# Altium integrated library Analog Devices Data Converters Analog-to-Digital Converters.IntLib: 2404 symbols (part 60 of 346)
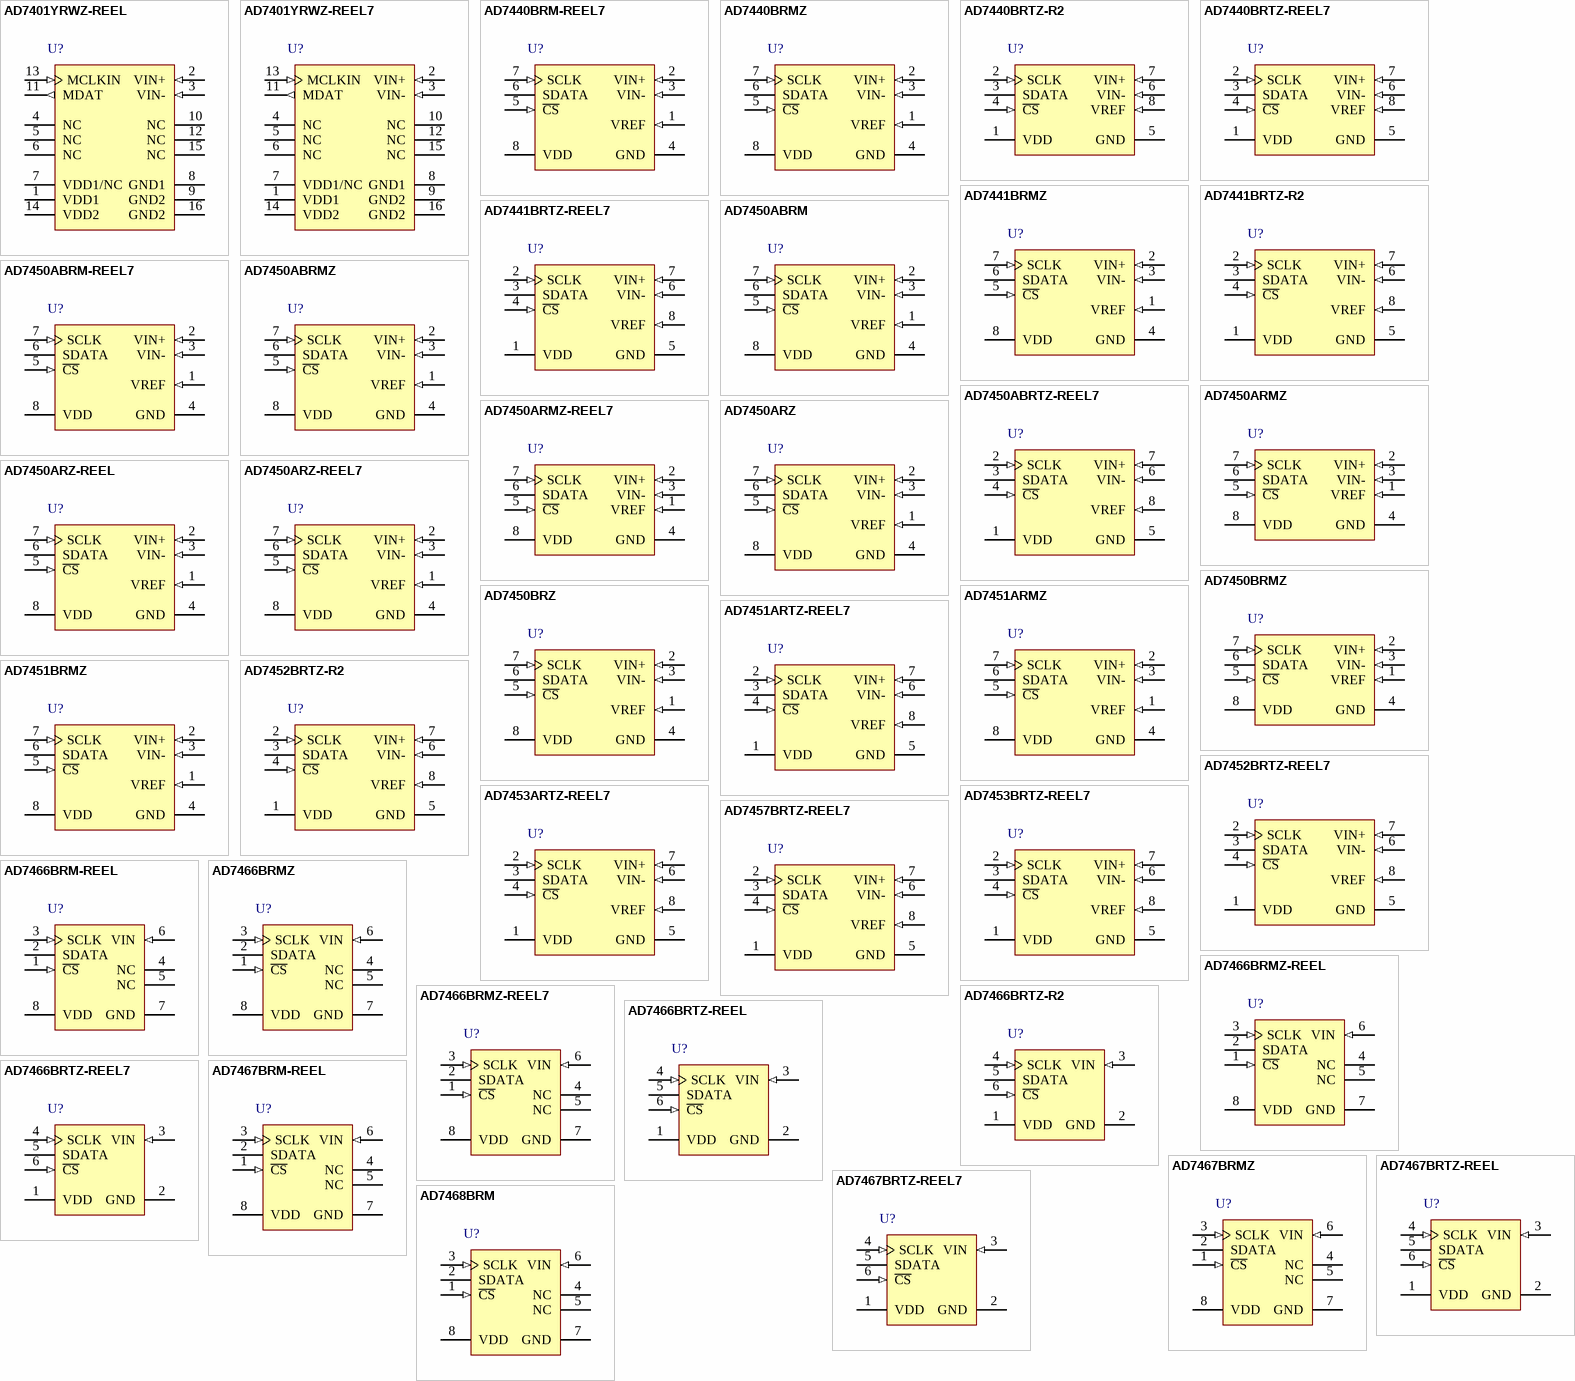
[diagram p188: symbols AD7401YRWZ-REEL to AD7468BRM]

## AD7441BRTZ-REEL7
designator U?
Single 10-Bit Analog-to-Digital Converter with Serial, SPI Interface, 1MSPS, -40 to +85 degC, RJ-8, Pb-Free, Reel; Generic Part Number: AD7441; Manufacturer: Analog Devices; PartNumber: AD7441BRTZ-REEL7; Resolution (Bits): 10; Channels: 1; Throughput Rate (SPS): 1M; Interface: Ser, SPI; DatasheetVersion: Rev.D; PackageVersion: 121608-A; PackageReference: RJ-8; PackageDescription: 8-Lead Thin Small Outline Transistor Package [SOT-23]; Supplier 1: Digi-Key; Supplier Part Number 1: AD7441BRTZ-REEL7TR-ND; Supplier 2: Digi-Key; Supplier Part Number 2: AD7441BRTZ-REEL7CT-ND; Supplier 3: Digi-Key; Supplier Part Number 3: AD7441BRTZ-REEL7DKR-ND; Supplier 4: Mouser; Supplier Part Number 4: 584-AD7441BRTZ-R7; RoHS: Y; Packing: Reel; Mounting Technology: Surface Mount; Code_JEDEC: MO-178-BA; ComponentLink1Description: Manufacturer URL; ComponentLink1URL: http://www.analog.com/en/index.html; ComponentLink2Description: Datasheet; ComponentLink2URL: http://www.analog.com/static/imported-files/data_sheets/AD7441_7451.pdf; ComponentLink3Description: Package Specification; ComponentLink3URL: http://www.analog.com/static/imported-files/packages/PKG_PDF/SOT-23(RJ)/RJ_8.pdf; ComponentLink4Description: Product URL; ComponentLink4URL: http://www.analog.com/en/analog-to-digital-converters/ad-converters/ad7441/products/product.html
footprint RJ-8_N (SOP, 8-Leads, Body 2.9x1.6mm, Pitch 0.65mm, IPC Medium Density)
footprint RJ-8_L (SOP, 8-Leads, Body 2.9x1.6mm, Pitch 0.65mm, IPC High Density)
footprint RJ-8_M (SOP, 8-Leads, Body 2.9x1.6mm, Pitch 0.65mm, IPC Low Density)
pins: 1 VDD (power) "Power Supply Input. VDD is 2.7 V to 5.25 V. This supply is decoupled to GND with a 0.1 uF capacitor and a 10 uF tantalum capacitor.", 2 SCLK (in) "Serial Clock, Logic Input. SCLK provides the serial clock for accessing data from the part. This clock input is also used as the clock source for the conversion process.", 3 SDATA (hiz) "Serial Data, Logic Output. The conversion result from the AD7441/AD7451 is provided on this output as a serial data stream. The bits are clocked out on the falling edge of the SCLK input. The data stream of the AD7451 (See Datasheet)", 4 ~{CS} (in) "Chip Select. Active low logic input. This input provides the dual function of initiating a conversion on the AD7441/AD7451 and framing the serial data transfer.", 5 GND (power) "Analog Ground. Ground reference point for all circuitry on the AD7441/AD7451. All analog input signals and any external reference signal are referred to this GND voltage.", 6 VIN- (in) "Inverting Input. This pin sets the ground reference point for the VIN+ input. Connect to ground or to a dc offset to provide a pseudo ground.", 7 VIN+ (in) "Noninverting Analog Input.", 8 VREF (in) "Reference Input for the AD7441/AD7451. An external reference in the range of 100 mV to VDD must be applied to this input. The specified reference input is 2.5 V. This pin is decoupled to GND with a capacitor of at least 0.1 (See Datasheet)"

## AD7450ABRM
designator U?
Single 12-Bit Analog-to-Digital Converter with Serial Interface, 1MSPS, -40 to +85 degC, RM-8, Tube; Generic Part Number: AD7450A; Manufacturer: Analog Devices; PartNumber: AD7450ABRM; Resolution (Bits): 12; Channels: 1; Throughput Rate (SPS): 1M; Interface: Ser; DatasheetVersion: Rev.C; PackageVersion: Aug-2005; PackageReference: RM-8; PackageDescription: 8-Lead Mini Small Outline Package [MSOP]; Supplier 1: Digi-Key; Supplier Part Number 1: AD7450ABRM-ND; Supplier 2: Mouser; Supplier Part Number 2: 584-AD7450ABRM; RoHS: N; Packing: Tube; Mounting Technology: Surface Mount; Code_JEDEC: MO-187-AA; ComponentLink1Description: Manufacturer URL; ComponentLink1URL: http://www.analog.com/en/index.html; ComponentLink2Description: Datasheet; ComponentLink2URL: http://www.analog.com/static/imported-files/data_sheets/AD7440_7450A.pdf; ComponentLink3Description: Package Specification; ComponentLink3URL: http://www.analog.com/static/imported-files/packages/PKG_PDF/MSOP%28RM%29/RM_8.pdf; ComponentLink4Description: Product URL; ComponentLink4URL: http://www.analog.com/en/analog-to-digital-converters/ad-converters/ad7450a/products/product.html
footprint RM-8_N (TSOP, 8-Leads, Body 3x3mm, Pitch 0.65mm, IPC Medium Density)
footprint RM-8_L (TSOP, 8-Leads, Body 3x3mm, Pitch 0.65mm, IPC High Density)
footprint RM-8_M (TSOP, 8-Leads, Body 3x3mm, Pitch 0.65mm, IPC Low Density)
pins: 1 VREF (in) "Reference Input for the AD7440/AD7450A. An external reference must be applied to this input. For a 5 V power supply, the reference is 2.5 V (+/-1%) for specified performance. For a 3 V power supply, the reference is 2 V (See Datasheet)", 2 VIN+ (in) "Positive Terminal for Differential Analog Input.", 3 VIN- (in) "Negative Terminal for Differential Analog Input.", 4 GND (power) "Analog Ground. Ground reference point for all circuitry on the AD7440/AD7450A. All analog input signals and any external reference signal should be referred to this GND voltage.", 5 ~{CS} (in) "Chip Select. Active low logic input. This input provides the dual function of initiating a conversion on the AD7440/AD7450A and framing the serial data transfer.", 6 SDATA (hiz) "Serial Data. Logic output. The conversion result from the AD7440/AD7450A is provided on this output as a serial data stream. The bits are clocked out on the falling edge of the SCLK input. The data stream of the AD7450A (See Datasheet)", 7 SCLK (in) "Serial Clock. Logic input. SCLK provides the serial clock for accessing data from the part. This clock input is also used as the clock source for the conversion process.", 8 VDD (power) "Power Supply Input. VDD is 3 V (+20%/-10%) or 5 V (+/-5%). This supply should be decoupled to GND with a 0.1 uF capacitor and a 10 uF tantalum capacitor in parallel."

## AD7450ABRM-REEL7
designator U?
Single 12-Bit Analog-to-Digital Converter with Serial Interface, 1MSPS, -40 to +85 degC, RM-8, Reel; Generic Part Number: AD7450A; Manufacturer: Analog Devices; PartNumber: AD7450ABRM-REEL7; Resolution (Bits): 12; Channels: 1; Throughput Rate (SPS): 1M; Interface: Ser; DatasheetVersion: Rev.C; PackageVersion: Aug-2005; PackageReference: RM-8; PackageDescription: 8-Lead Mini Small Outline Package [MSOP]; Supplier 1: Digi-Key; Supplier Part Number 1: AD7450ABRM-REEL7-ND; Supplier 2: Mouser; Supplier Part Number 2: 584-AD7450ABRM-R7; RoHS: N; Packing: Reel; Mounting Technology: Surface Mount; Code_JEDEC: MO-187-AA; ComponentLink1Description: Manufacturer URL; ComponentLink1URL: http://www.analog.com/en/index.html; ComponentLink2Description: Datasheet; ComponentLink2URL: http://www.analog.com/static/imported-files/data_sheets/AD7440_7450A.pdf; ComponentLink3Description: Package Specification; ComponentLink3URL: http://www.analog.com/static/imported-files/packages/PKG_PDF/MSOP%28RM%29/RM_8.pdf; ComponentLink4Description: Product URL; ComponentLink4URL: http://www.analog.com/en/analog-to-digital-converters/ad-converters/ad7450a/products/product.html
footprint RM-8_N (TSOP, 8-Leads, Body 3x3mm, Pitch 0.65mm, IPC Medium Density)
footprint RM-8_L (TSOP, 8-Leads, Body 3x3mm, Pitch 0.65mm, IPC High Density)
footprint RM-8_M (TSOP, 8-Leads, Body 3x3mm, Pitch 0.65mm, IPC Low Density)
pins: 1 VREF (in) "Reference Input for the AD7440/AD7450A. An external reference must be applied to this input. For a 5 V power supply, the reference is 2.5 V (+/-1%) for specified performance. For a 3 V power supply, the reference is 2 V (See Datasheet)", 2 VIN+ (in) "Positive Terminal for Differential Analog Input.", 3 VIN- (in) "Negative Terminal for Differential Analog Input.", 4 GND (power) "Analog Ground. Ground reference point for all circuitry on the AD7440/AD7450A. All analog input signals and any external reference signal should be referred to this GND voltage.", 5 ~{CS} (in) "Chip Select. Active low logic input. This input provides the dual function of initiating a conversion on the AD7440/AD7450A and framing the serial data transfer.", 6 SDATA (hiz) "Serial Data. Logic output. The conversion result from the AD7440/AD7450A is provided on this output as a serial data stream. The bits are clocked out on the falling edge of the SCLK input. The data stream of the AD7450A (See Datasheet)", 7 SCLK (in) "Serial Clock. Logic input. SCLK provides the serial clock for accessing data from the part. This clock input is also used as the clock source for the conversion process.", 8 VDD (power) "Power Supply Input. VDD is 3 V (+20%/-10%) or 5 V (+/-5%). This supply should be decoupled to GND with a 0.1 uF capacitor and a 10 uF tantalum capacitor in parallel."

## AD7450ABRMZ
designator U?
Single 12-Bit Analog-to-Digital Converter with Serial Interface, 1MSPS, -40 to +85 degC, RM-8, Pb-Free, Tube; Generic Part Number: AD7450A; Manufacturer: Analog Devices; PartNumber: AD7450ABRMZ; Resolution (Bits): 12; Channels: 1; Throughput Rate (SPS): 1M; Interface: Ser; DatasheetVersion: Rev.C; PackageVersion: Aug-2005; PackageReference: RM-8; PackageDescription: 8-Lead Mini Small Outline Package [MSOP]; Supplier 1: Digi-Key; Supplier Part Number 1: AD7450ABRMZ-ND; Supplier 2: Newark; Supplier Part Number 2: 59K4825; Supplier 3: Mouser; Supplier Part Number 3: 584-AD7450ABRMZ; RoHS: Y; Packing: Tube; Mounting Technology: Surface Mount; Code_JEDEC: MO-187-AA; ComponentLink1Description: Manufacturer URL; ComponentLink1URL: http://www.analog.com/en/index.html; ComponentLink2Description: Datasheet; ComponentLink2URL: http://www.analog.com/static/imported-files/data_sheets/AD7440_7450A.pdf; ComponentLink3Description: Package Specification; ComponentLink3URL: http://www.analog.com/static/imported-files/packages/PKG_PDF/MSOP%28RM%29/RM_8.pdf; ComponentLink4Description: Product URL; ComponentLink4URL: http://www.analog.com/en/analog-to-digital-converters/ad-converters/ad7450a/products/product.html
footprint RM-8_N (TSOP, 8-Leads, Body 3x3mm, Pitch 0.65mm, IPC Medium Density)
footprint RM-8_L (TSOP, 8-Leads, Body 3x3mm, Pitch 0.65mm, IPC High Density)
footprint RM-8_M (TSOP, 8-Leads, Body 3x3mm, Pitch 0.65mm, IPC Low Density)
pins: 1 VREF (in) "Reference Input for the AD7440/AD7450A. An external reference must be applied to this input. For a 5 V power supply, the reference is 2.5 V (+/-1%) for specified performance. For a 3 V power supply, the reference is 2 V (See Datasheet)", 2 VIN+ (in) "Positive Terminal for Differential Analog Input.", 3 VIN- (in) "Negative Terminal for Differential Analog Input.", 4 GND (power) "Analog Ground. Ground reference point for all circuitry on the AD7440/AD7450A. All analog input signals and any external reference signal should be referred to this GND voltage.", 5 ~{CS} (in) "Chip Select. Active low logic input. This input provides the dual function of initiating a conversion on the AD7440/AD7450A and framing the serial data transfer.", 6 SDATA (hiz) "Serial Data. Logic output. The conversion result from the AD7440/AD7450A is provided on this output as a serial data stream. The bits are clocked out on the falling edge of the SCLK input. The data stream of the AD7450A (See Datasheet)", 7 SCLK (in) "Serial Clock. Logic input. SCLK provides the serial clock for accessing data from the part. This clock input is also used as the clock source for the conversion process.", 8 VDD (power) "Power Supply Input. VDD is 3 V (+20%/-10%) or 5 V (+/-5%). This supply should be decoupled to GND with a 0.1 uF capacitor and a 10 uF tantalum capacitor in parallel."

## AD7450ABRTZ-REEL7
designator U?
Single 12-Bit Analog-to-Digital Converter with Serial Interface, 1MSPS, -40 to +85 degC, RJ-8, Pb-Free, Reel; Generic Part Number: AD7450A; Manufacturer: Analog Devices; PartNumber: AD7450ABRTZ-REEL7; Resolution (Bits): 12; Channels: 1; Throughput Rate (SPS): 1M; Interface: Ser; DatasheetVersion: Rev.C; PackageVersion: 121608-A; PackageReference: RJ-8; PackageDescription: 8-Lead Thin Small Outline Transistor Package [SOT-23]; Supplier 1: Digi-Key; Supplier Part Number 1: AD7450ABRTZ-REEL7TR-ND; Supplier 2: Digi-Key; Supplier Part Number 2: AD7450ABRTZ-REEL7CT-ND; Supplier 3: Digi-Key; Supplier Part Number 3: AD7450ABRTZ-REEL7DKR-ND; Supplier 4: Newark; Supplier Part Number 4: 59K4826; Supplier 5: Mouser; Supplier Part Number 5: 584-AD7450ABRTZ-R7; RoHS: Y; Packing: Reel; Mounting Technology: Surface Mount; Code_JEDEC: MO-178-BA; ComponentLink1Description: Manufacturer URL; ComponentLink1URL: http://www.analog.com/en/index.html; ComponentLink2Description: Datasheet; ComponentLink2URL: http://www.analog.com/static/imported-files/data_sheets/AD7440_7450A.pdf; ComponentLink3Description: Package Specification; ComponentLink3URL: http://www.analog.com/static/imported-files/packages/PKG_PDF/SOT-23(RJ)/RJ_8.pdf; ComponentLink4Description: Product URL; ComponentLink4URL: http://www.analog.com/en/analog-to-digital-converters/ad-converters/ad7450a/products/product.html
footprint RJ-8_N (SOP, 8-Leads, Body 2.9x1.6mm, Pitch 0.65mm, IPC Medium Density)
footprint RJ-8_L (SOP, 8-Leads, Body 2.9x1.6mm, Pitch 0.65mm, IPC High Density)
footprint RJ-8_M (SOP, 8-Leads, Body 2.9x1.6mm, Pitch 0.65mm, IPC Low Density)
pins: 1 VDD (power) "Power Supply Input. VDD is 3 V (+20%/-10%) or 5 V (+/-5%). This supply should be decoupled to GND with a 0.1 uF capacitor and a 10 uF tantalum capacitor in parallel.", 2 SCLK (in) "Serial Clock. Logic input. SCLK provides the serial clock for accessing data from the part. This clock input is also used as the clock source for the conversion process.", 3 SDATA (hiz) "Serial Data. Logic output. The conversion result from the AD7440/AD7450A is provided on this output as a serial data stream. The bits are clocked out on the falling edge of the SCLK input. The data stream of the AD7450A (See Datasheet)", 4 ~{CS} (in) "Chip Select. Active low logic input. This input provides the dual function of initiating a conversion on the AD7440/AD7450A and framing the serial data transfer.", 5 GND (power) "Analog Ground. Ground reference point for all circuitry on the AD7440/AD7450A. All analog input signals and any external reference signal should be referred to this GND voltage.", 6 VIN- (in) "Negative Terminal for Differential Analog Input.", 7 VIN+ (in) "Positive Terminal for Differential Analog Input.", 8 VREF (in) "Reference Input for the AD7440/AD7450A. An external reference must be applied to this input. For a 5 V power supply, the reference is 2.5 V (+/-1%) for specified performance. For a 3 V power supply, the reference is 2 V (See Datasheet)"

## AD7450ARMZ
designator U?
Single 12-Bit Analog-to-Digital Converter with Serial Interface, 1MSPS, -40 to +85 degC, RM-8, Pb-Free, Tube; Generic Part Number: AD7450; Manufacturer: Analog Devices; PartNumber: AD7450ARMZ; Resolution (Bits): 12; Channels: 1; Throughput Rate (SPS): 1M; Interface: Ser; DatasheetVersion: Rev.A; PackageVersion: Aug-2005; PackageReference: RM-8; PackageDescription: 8-Lead Mini Small Outline Package [MSOP]; Supplier 1: Digi-Key; Supplier Part Number 1: AD7450ARMZ-ND; Supplier 2: Farnell; Supplier Part Number 2: 1079395; Supplier 3: Newark; Supplier Part Number 3: 15P0805; Supplier 4: Newark; Supplier Part Number 4: 59K4827; Supplier 5: Mouser; Supplier Part Number 5: 584-AD7450ARMZ; RoHS: Y; Packing: Tube; Mounting Technology: Surface Mount; Code_JEDEC: MO-187-AA; ComponentLink1Description: Manufacturer URL; ComponentLink1URL: http://www.analog.com/en/index.html; ComponentLink2Description: Datasheet; ComponentLink2URL: http://www.analog.com/static/imported-files/data_sheets/AD7450.pdf; ComponentLink3Description: Package Specification; ComponentLink3URL: http://www.analog.com/static/imported-files/packages/PKG_PDF/MSOP%28RM%29/RM_8.pdf; ComponentLink4Description: Product URL; ComponentLink4URL: http://www.analog.com/en/analog-to-digital-converters/ad-converters/ad7450/products/product.html
footprint RM-8_N (TSOP, 8-Leads, Body 3x3mm, Pitch 0.65mm, IPC Medium Density)
footprint RM-8_L (TSOP, 8-Leads, Body 3x3mm, Pitch 0.65mm, IPC High Density)
footprint RM-8_M (TSOP, 8-Leads, Body 3x3mm, Pitch 0.65mm, IPC Low Density)
pins: 1 VREF (in) "Reference Input for the AD7450. An external reference must be applied to this input. For a 5 V power supply, the reference is 2.5 V (+/-1%), and for a 3 V power supply, the reference is 1.25 V (+/-1%) for specified (See Datasheet)", 2 VIN+ (in) "Positive Terminal for Differential Analog Input", 3 VIN- (in) "Negative Terminal for Differential Analog Input", 4 GND (power) "Analog Ground. Ground reference point for all circuitry on the AD7450. All analog input signals and any external reference signal should be referred to this GND voltage.", 5 ~{CS} (in) "Chip Select. Active low logic input. This input provides the dual function of initiating a conversion on the AD7450 and framing the serial data transfer.", 6 SDATA (hiz) "Serial Data. Logic output. The conversion result from the AD7450 is provided on this output as a serial data stream. The bits are clocked out on the falling edge of the SCLK input. The data stream consists of four leading (See Datasheet)", 7 SCLK (in) "Serial Clock. Logic input. SCLK provides the serial clock for accessing data from the part.This clock input is also used as the clock source for the AD7450’s conversion process.", 8 VDD (power) "Power Supply Input. VDD is 3 V (+/-10%) or 5 V (+/-5%). This supply should be decoupled to GND with a 0.1 uF capacitor and a 10 uF tantalum capacitor."

## AD7450ARMZ-REEL7
designator U?
Single 12-Bit Analog-to-Digital Converter with Serial Interface, 1MSPS, -40 to +85 degC, RM-8, Pb-Free, Reel; Generic Part Number: AD7450; Manufacturer: Analog Devices; PartNumber: AD7450ARMZ-REEL7; Resolution (Bits): 12; Channels: 1; Throughput Rate (SPS): 1M; Interface: Ser; DatasheetVersion: Rev.A; PackageVersion: Aug-2005; PackageReference: RM-8; PackageDescription: 8-Lead Mini Small Outline Package [MSOP]; Supplier 1: Digi-Key; Supplier Part Number 1: AD7450ARMZ-REEL7-ND; Supplier 2: Mouser; Supplier Part Number 2: 584-AD7450ARMZ-R7; RoHS: Y; Packing: Reel; Mounting Technology: Surface Mount; Code_JEDEC: MO-187-AA; ComponentLink1Description: Manufacturer URL; ComponentLink1URL: http://www.analog.com/en/index.html; ComponentLink2Description: Datasheet; ComponentLink2URL: http://www.analog.com/static/imported-files/data_sheets/AD7450.pdf; ComponentLink3Description: Package Specification; ComponentLink3URL: http://www.analog.com/static/imported-files/packages/PKG_PDF/MSOP%28RM%29/RM_8.pdf; ComponentLink4Description: Product URL; ComponentLink4URL: http://www.analog.com/en/analog-to-digital-converters/ad-converters/ad7450/products/product.html
footprint RM-8_N (TSOP, 8-Leads, Body 3x3mm, Pitch 0.65mm, IPC Medium Density)
footprint RM-8_L (TSOP, 8-Leads, Body 3x3mm, Pitch 0.65mm, IPC High Density)
footprint RM-8_M (TSOP, 8-Leads, Body 3x3mm, Pitch 0.65mm, IPC Low Density)
pins: 1 VREF (in) "Reference Input for the AD7450. An external reference must be applied to this input. For a 5 V power supply, the reference is 2.5 V (+/-1%), and for a 3 V power supply, the reference is 1.25 V (+/-1%) for specified (See Datasheet)", 2 VIN+ (in) "Positive Terminal for Differential Analog Input", 3 VIN- (in) "Negative Terminal for Differential Analog Input", 4 GND (power) "Analog Ground. Ground reference point for all circuitry on the AD7450. All analog input signals and any external reference signal should be referred to this GND voltage.", 5 ~{CS} (in) "Chip Select. Active low logic input. This input provides the dual function of initiating a conversion on the AD7450 and framing the serial data transfer.", 6 SDATA (hiz) "Serial Data. Logic output. The conversion result from the AD7450 is provided on this output as a serial data stream. The bits are clocked out on the falling edge of the SCLK input. The data stream consists of four leading (See Datasheet)", 7 SCLK (in) "Serial Clock. Logic input. SCLK provides the serial clock for accessing data from the part.This clock input is also used as the clock source for the AD7450’s conversion process.", 8 VDD (power) "Power Supply Input. VDD is 3 V (+/-10%) or 5 V (+/-5%). This supply should be decoupled to GND with a 0.1 uF capacitor and a 10 uF tantalum capacitor."

## AD7450ARZ
designator U?
Single 12-Bit Analog-to-Digital Converter with Serial Interface, 1MSPS, -40 to +85 degC, R-8, Pb-Free, Tube; Generic Part Number: AD7450; Manufacturer: Analog Devices; PartNumber: AD7450ARZ; Resolution (Bits): 12; Channels: 1; Throughput Rate (SPS): 1M; Interface: Ser; DatasheetVersion: Rev.A; PackageVersion: 060506-A; PackageReference: R-8; PackageDescription: 8-Lead Standard Small Outline Package [SOIC_N] Narrow Body; Supplier 1: Digi-Key; Supplier Part Number 1: AD7450ARZ-ND; Supplier 2: Mouser; Supplier Part Number 2: 584-AD7450ARZ; RoHS: Y; Packing: Tube; Mounting Technology: Surface Mount; Code_JEDEC: MS-012-AA; Code_IPC: SOIC127P600-8; ComponentLink1Description: Manufacturer URL; ComponentLink1URL: http://www.analog.com/en/index.html; ComponentLink2Description: Datasheet; ComponentLink2URL: http://www.analog.com/static/imported-files/data_sheets/AD7450.pdf; ComponentLink3Description: Package Specification; ComponentLink3URL: http://www.analog.com/static/imported-files/packages/PKG_PDF/SOIC_Narrow%20(R)/R_8.pdf; ComponentLink4Description: Product URL; ComponentLink4URL: http://www.analog.com/en/analog-to-digital-converters/ad-converters/ad7450/products/product.html
footprint R-8_N (SOIC, 8-Leads, Body 4.9x3.9mm, Pitch 1.27mm, IPC Medium Density)
footprint R-8_L (SOIC, 8-Leads, Body 4.9x3.9mm, Pitch 1.27mm, IPC High Density)
footprint R-8_M (SOIC, 8-Leads, Body 4.9x3.9mm, Pitch 1.27mm, IPC Low Density)
pins: 1 VREF (in) "Reference Input for the AD7450. An external reference must be applied to this input. For a 5 V power supply, the reference is 2.5 V (+/-1%), and for a 3 V power supply, the reference is 1.25 V (+/-1%) for specified (See Datasheet)", 2 VIN+ (in) "Positive Terminal for Differential Analog Input", 3 VIN- (in) "Negative Terminal for Differential Analog Input", 4 GND (power) "Analog Ground. Ground reference point for all circuitry on the AD7450. All analog input signals and any external reference signal should be referred to this GND voltage.", 5 ~{CS} (in) "Chip Select. Active low logic input. This input provides the dual function of initiating a conversion on the AD7450 and framing the serial data transfer.", 6 SDATA (hiz) "Serial Data. Logic output. The conversion result from the AD7450 is provided on this output as a serial data stream. The bits are clocked out on the falling edge of the SCLK input. The data stream consists of four leading (See Datasheet)", 7 SCLK (in) "Serial Clock. Logic input. SCLK provides the serial clock for accessing data from the part.This clock input is also used as the clock source for the AD7450's conversion process.", 8 VDD (power) "Power Supply Input. VDD is 3 V (+/-10%) or 5 V (+/-5%). This supply should be decoupled to GND with a 0.1 uF capacitor and a 10 uF tantalum capacitor."

## AD7450ARZ-REEL
designator U?
Single 12-Bit Analog-to-Digital Converter with Serial Interface, 1MSPS, -40 to +85 degC, R-8, Pb-Free, Reel; Generic Part Number: AD7450; Manufacturer: Analog Devices; PartNumber: AD7450ARZ-REEL; Resolution (Bits): 12; Channels: 1; Throughput Rate (SPS): 1M; Interface: Ser; DatasheetVersion: Rev.A; PackageVersion: 060506-A; PackageReference: R-8; PackageDescription: 8-Lead Standard Small Outline Package [SOIC_N] Narrow Body; Supplier 1: Digi-Key; Supplier Part Number 1: AD7450ARZ-REEL-ND; Supplier 2: Mouser; Supplier Part Number 2: 584-AD7450ARZ-R; RoHS: Y; Packing: Reel; Mounting Technology: Surface Mount; Code_JEDEC: MS-012-AA; Code_IPC: SOIC127P600-8; ComponentLink1Description: Manufacturer URL; ComponentLink1URL: http://www.analog.com/en/index.html; ComponentLink2Description: Datasheet; ComponentLink2URL: http://www.analog.com/static/imported-files/data_sheets/AD7450.pdf; ComponentLink3Description: Package Specification; ComponentLink3URL: http://www.analog.com/static/imported-files/packages/PKG_PDF/SOIC_Narrow%20(R)/R_8.pdf; ComponentLink4Description: Product URL; ComponentLink4URL: http://www.analog.com/en/analog-to-digital-converters/ad-converters/ad7450/products/product.html
footprint R-8_N (SOIC, 8-Leads, Body 4.9x3.9mm, Pitch 1.27mm, IPC Medium Density)
footprint R-8_L (SOIC, 8-Leads, Body 4.9x3.9mm, Pitch 1.27mm, IPC High Density)
footprint R-8_M (SOIC, 8-Leads, Body 4.9x3.9mm, Pitch 1.27mm, IPC Low Density)
pins: 1 VREF (in) "Reference Input for the AD7450. An external reference must be applied to this input. For a 5 V power supply, the reference is 2.5 V (+/-1%), and for a 3 V power supply, the reference is 1.25 V (+/-1%) for specified (See Datasheet)", 2 VIN+ (in) "Positive Terminal for Differential Analog Input", 3 VIN- (in) "Negative Terminal for Differential Analog Input", 4 GND (power) "Analog Ground. Ground reference point for all circuitry on the AD7450. All analog input signals and any external reference signal should be referred to this GND voltage.", 5 ~{CS} (in) "Chip Select. Active low logic input. This input provides the dual function of initiating a conversion on the AD7450 and framing the serial data transfer.", 6 SDATA (hiz) "Serial Data. Logic output. The conversion result from the AD7450 is provided on this output as a serial data stream. The bits are clocked out on the falling edge of the SCLK input. The data stream consists of four leading (See Datasheet)", 7 SCLK (in) "Serial Clock. Logic input. SCLK provides the serial clock for accessing data from the part.This clock input is also used as the clock source for the AD7450's conversion process.", 8 VDD (power) "Power Supply Input. VDD is 3 V (+/-10%) or 5 V (+/-5%). This supply should be decoupled to GND with a 0.1 uF capacitor and a 10 uF tantalum capacitor."

## AD7450ARZ-REEL7
designator U?
Single 12-Bit Analog-to-Digital Converter with Serial Interface, 1MSPS, -40 to +85 degC, R-8, Pb-Free, Reel; Generic Part Number: AD7450; Manufacturer: Analog Devices; PartNumber: AD7450ARZ-REEL7; Resolution (Bits): 12; Channels: 1; Throughput Rate (SPS): 1M; Interface: Ser; DatasheetVersion: Rev.A; PackageVersion: 060506-A; PackageReference: R-8; PackageDescription: 8-Lead Standard Small Outline Package [SOIC_N] Narrow Body; Supplier 1: Digi-Key; Supplier Part Number 1: AD7450ARZ-REEL7-ND; Supplier 2: Mouser; Supplier Part Number 2: 584-AD7450ARZ-R7; RoHS: Y; Packing: Reel; Mounting Technology: Surface Mount; Code_JEDEC: MS-012-AA; Code_IPC: SOIC127P600-8; ComponentLink1Description: Manufacturer URL; ComponentLink1URL: http://www.analog.com/en/index.html; ComponentLink2Description: Datasheet; ComponentLink2URL: http://www.analog.com/static/imported-files/data_sheets/AD7450.pdf; ComponentLink3Description: Package Specification; ComponentLink3URL: http://www.analog.com/static/imported-files/packages/PKG_PDF/SOIC_Narrow%20(R)/R_8.pdf; ComponentLink4Description: Product URL; ComponentLink4URL: http://www.analog.com/en/analog-to-digital-converters/ad-converters/ad7450/products/product.html
footprint R-8_N (SOIC, 8-Leads, Body 4.9x3.9mm, Pitch 1.27mm, IPC Medium Density)
footprint R-8_L (SOIC, 8-Leads, Body 4.9x3.9mm, Pitch 1.27mm, IPC High Density)
footprint R-8_M (SOIC, 8-Leads, Body 4.9x3.9mm, Pitch 1.27mm, IPC Low Density)
pins: 1 VREF (in) "Reference Input for the AD7450. An external reference must be applied to this input. For a 5 V power supply, the reference is 2.5 V (+/-1%), and for a 3 V power supply, the reference is 1.25 V (+/-1%) for specified (See Datasheet)", 2 VIN+ (in) "Positive Terminal for Differential Analog Input", 3 VIN- (in) "Negative Terminal for Differential Analog Input", 4 GND (power) "Analog Ground. Ground reference point for all circuitry on the AD7450. All analog input signals and any external reference signal should be referred to this GND voltage.", 5 ~{CS} (in) "Chip Select. Active low logic input. This input provides the dual function of initiating a conversion on the AD7450 and framing the serial data transfer.", 6 SDATA (hiz) "Serial Data. Logic output. The conversion result from the AD7450 is provided on this output as a serial data stream. The bits are clocked out on the falling edge of the SCLK input. The data stream consists of four leading (See Datasheet)", 7 SCLK (in) "Serial Clock. Logic input. SCLK provides the serial clock for accessing data from the part.This clock input is also used as the clock source for the AD7450's conversion process.", 8 VDD (power) "Power Supply Input. VDD is 3 V (+/-10%) or 5 V (+/-5%). This supply should be decoupled to GND with a 0.1 uF capacitor and a 10 uF tantalum capacitor."

## AD7450BRMZ
designator U?
Single 12-Bit Analog-to-Digital Converter with Serial Interface, 1MSPS, -40 to +85 degC, RM-8, Pb-Free, Tube; Generic Part Number: AD7450; Manufacturer: Analog Devices; PartNumber: AD7450BRMZ; Resolution (Bits): 12; Channels: 1; Throughput Rate (SPS): 1M; Interface: Ser; DatasheetVersion: Rev.A; PackageVersion: Aug-2005; PackageReference: RM-8; PackageDescription: 8-Lead Mini Small Outline Package [MSOP]; Supplier 1: Digi-Key; Supplier Part Number 1: AD7450BRMZ-ND; Supplier 2: Mouser; Supplier Part Number 2: 584-AD7450BRMZ; RoHS: Y; Packing: Tube; Mounting Technology: Surface Mount; Code_JEDEC: MO-187-AA; ComponentLink1Description: Manufacturer URL; ComponentLink1URL: http://www.analog.com/en/index.html; ComponentLink2Description: Datasheet; ComponentLink2URL: http://www.analog.com/static/imported-files/data_sheets/AD7450.pdf; ComponentLink3Description: Package Specification; ComponentLink3URL: http://www.analog.com/static/imported-files/packages/PKG_PDF/MSOP%28RM%29/RM_8.pdf; ComponentLink4Description: Product URL; ComponentLink4URL: http://www.analog.com/en/analog-to-digital-converters/ad-converters/ad7450/products/product.html
footprint RM-8_N (TSOP, 8-Leads, Body 3x3mm, Pitch 0.65mm, IPC Medium Density)
footprint RM-8_L (TSOP, 8-Leads, Body 3x3mm, Pitch 0.65mm, IPC High Density)
footprint RM-8_M (TSOP, 8-Leads, Body 3x3mm, Pitch 0.65mm, IPC Low Density)
pins: 1 VREF (in) "Reference Input for the AD7450. An external reference must be applied to this input. For a 5 V power supply, the reference is 2.5 V (+/-1%), and for a 3 V power supply, the reference is 1.25 V (+/-1%) for specified (See Datasheet)", 2 VIN+ (in) "Positive Terminal for Differential Analog Input", 3 VIN- (in) "Negative Terminal for Differential Analog Input", 4 GND (power) "Analog Ground. Ground reference point for all circuitry on the AD7450. All analog input signals and any external reference signal should be referred to this GND voltage.", 5 ~{CS} (in) "Chip Select. Active low logic input. This input provides the dual function of initiating a conversion on the AD7450 and framing the serial data transfer.", 6 SDATA (hiz) "Serial Data. Logic output. The conversion result from the AD7450 is provided on this output as a serial data stream. The bits are clocked out on the falling edge of the SCLK input. The data stream consists of four leading (See Datasheet)", 7 SCLK (in) "Serial Clock. Logic input. SCLK provides the serial clock for accessing data from the part.This clock input is also used as the clock source for the AD7450’s conversion process.", 8 VDD (power) "Power Supply Input. VDD is 3 V (+/-10%) or 5 V (+/-5%). This supply should be decoupled to GND with a 0.1 uF capacitor and a 10 uF tantalum capacitor."

## AD7450BRZ
designator U?
Single 12-Bit Analog-to-Digital Converter with Serial Interface, 1MSPS, -40 to +85 degC, R-8, Pb-Free, Tube; Generic Part Number: AD7450; Manufacturer: Analog Devices; PartNumber: AD7450BRZ; Resolution (Bits): 12; Channels: 1; Throughput Rate (SPS): 1M; Interface: Ser; DatasheetVersion: Rev.A; PackageVersion: 060506-A; PackageReference: R-8; PackageDescription: 8-Lead Standard Small Outline Package [SOIC_N] Narrow Body; Supplier 1: Digi-Key; Supplier Part Number 1: AD7450BRZ-ND; Supplier 2: Mouser; Supplier Part Number 2: 584-AD7450BRZ; RoHS: Y; Packing: Tube; Mounting Technology: Surface Mount; Code_JEDEC: MS-012-AA; Code_IPC: SOIC127P600-8; ComponentLink1Description: Manufacturer URL; ComponentLink1URL: http://www.analog.com/en/index.html; ComponentLink2Description: Datasheet; ComponentLink2URL: http://www.analog.com/static/imported-files/data_sheets/AD7450.pdf; ComponentLink3Description: Package Specification; ComponentLink3URL: http://www.analog.com/static/imported-files/packages/PKG_PDF/SOIC_Narrow%20(R)/R_8.pdf; ComponentLink4Description: Product URL; ComponentLink4URL: http://www.analog.com/en/analog-to-digital-converters/ad-converters/ad7450/products/product.html
footprint R-8_N (SOIC, 8-Leads, Body 4.9x3.9mm, Pitch 1.27mm, IPC Medium Density)
footprint R-8_L (SOIC, 8-Leads, Body 4.9x3.9mm, Pitch 1.27mm, IPC High Density)
footprint R-8_M (SOIC, 8-Leads, Body 4.9x3.9mm, Pitch 1.27mm, IPC Low Density)
pins: 1 VREF (in) "Reference Input for the AD7450. An external reference must be applied to this input. For a 5 V power supply, the reference is 2.5 V (+/-1%), and for a 3 V power supply, the reference is 1.25 V (+/-1%) for specified (See Datasheet)", 2 VIN+ (in) "Positive Terminal for Differential Analog Input", 3 VIN- (in) "Negative Terminal for Differential Analog Input", 4 GND (power) "Analog Ground. Ground reference point for all circuitry on the AD7450. All analog input signals and any external reference signal should be referred to this GND voltage.", 5 ~{CS} (in) "Chip Select. Active low logic input. This input provides the dual function of initiating a conversion on the AD7450 and framing the serial data transfer.", 6 SDATA (hiz) "Serial Data. Logic output. The conversion result from the AD7450 is provided on this output as a serial data stream. The bits are clocked out on the falling edge of the SCLK input. The data stream consists of four leading (See Datasheet)", 7 SCLK (in) "Serial Clock. Logic input. SCLK provides the serial clock for accessing data from the part.This clock input is also used as the clock source for the AD7450's conversion process.", 8 VDD (power) "Power Supply Input. VDD is 3 V (+/-10%) or 5 V (+/-5%). This supply should be decoupled to GND with a 0.1 uF capacitor and a 10 uF tantalum capacitor."

## AD7451ARMZ
designator U?
Single 12-Bit Analog-to-Digital Converter with Serial, SPI Interface, 1MSPS, -40 to +85 degC, RM-8, Pb-Free, Tube; Generic Part Number: AD7451; Manufacturer: Analog Devices; PartNumber: AD7451ARMZ; Resolution (Bits): 12; Channels: 1; Throughput Rate (SPS): 1M; Interface: Ser, SPI; DatasheetVersion: Rev.D; PackageVersion: Aug-2005; PackageReference: RM-8; PackageDescription: 8-Lead Mini Small Outline Package [MSOP]; Supplier 1: Digi-Key; Supplier Part Number 1: AD7451ARMZ-ND; Supplier 2: Mouser; Supplier Part Number 2: 584-AD7451ARMZ; RoHS: Y; Packing: Tube; Mounting Technology: Surface Mount; Code_JEDEC: MO-187-AA; ComponentLink1Description: Manufacturer URL; ComponentLink1URL: http://www.analog.com/en/index.html; ComponentLink2Description: Datasheet; ComponentLink2URL: http://www.analog.com/static/imported-files/data_sheets/AD7441_7451.pdf; ComponentLink3Description: Package Specification; ComponentLink3URL: http://www.analog.com/static/imported-files/packages/PKG_PDF/MSOP%28RM%29/RM_8.pdf; ComponentLink4Description: Product URL; ComponentLink4URL: http://www.analog.com/en/analog-to-digital-converters/ad-converters/ad7451/products/product.html
footprint RM-8_N (TSOP, 8-Leads, Body 3x3mm, Pitch 0.65mm, IPC Medium Density)
footprint RM-8_L (TSOP, 8-Leads, Body 3x3mm, Pitch 0.65mm, IPC High Density)
footprint RM-8_M (TSOP, 8-Leads, Body 3x3mm, Pitch 0.65mm, IPC Low Density)
pins: 1 VREF (in) "Reference Input for the AD7441/AD7451. An external reference in the range of 100 mV to VDD must be applied to this input. The specified reference input is 2.5 V. This pin is decoupled to GND with a capacitor of at least 0.1 (See Datasheet)", 2 VIN+ (in) "Noninverting Analog Input.", 3 VIN- (in) "Inverting Input. This pin sets the ground reference point for the VIN+ input. Connect to ground or to a dc offset to provide a pseudo ground.", 4 GND (power) "Analog Ground. Ground reference point for all circuitry on the AD7441/AD7451. All analog input signals and any external reference signal are referred to this GND voltage.", 5 ~{CS} (in) "Chip Select. Active low logic input. This input provides the dual function of initiating a conversion on the AD7441/AD7451 and framing the serial data transfer.", 6 SDATA (hiz) "Serial Data, Logic Output. The conversion result from the AD7441/AD7451 is provided on this output as a serial data stream. The bits are clocked out on the falling edge of the SCLK input. The data stream of the AD7451 (See Datasheet)", 7 SCLK (in) "Serial Clock, Logic Input. SCLK provides the serial clock for accessing data from the part. This clock input is also used as the clock source for the conversion process.", 8 VDD (power) "Power Supply Input. VDD is 2.7 V to 5.25 V. This supply is decoupled to GND with a 0.1 uF capacitor and a 10 uF tantalum capacitor."

## AD7451ARTZ-REEL7
designator U?
Single 12-Bit Analog-to-Digital Converter with Serial, SPI Interface, 1MSPS, -40 to +85 degC, RJ-8, Pb-Free, Reel; Generic Part Number: AD7451; Manufacturer: Analog Devices; PartNumber: AD7451ARTZ-REEL7; Resolution (Bits): 12; Channels: 1; Throughput Rate (SPS): 1M; Interface: Ser, SPI; DatasheetVersion: Rev.D; PackageVersion: 121608-A; PackageReference: RJ-8; PackageDescription: 8-Lead Thin Small Outline Transistor Package [SOT-23]; Supplier 1: Digi-Key; Supplier Part Number 1: AD7451ARTZ-REEL7TR-ND; Supplier 2: Digi-Key; Supplier Part Number 2: AD7451ARTZ-REEL7CT-ND; Supplier 3: Digi-Key; Supplier Part Number 3: AD7451ARTZ-REEL7DKR-ND; Supplier 4: Mouser; Supplier Part Number 4: 584-AD7451ARTZ-R7; RoHS: Y; Packing: Reel; Mounting Technology: Surface Mount; Code_JEDEC: MO-178-BA; ComponentLink1Description: Manufacturer URL; ComponentLink1URL: http://www.analog.com/en/index.html; ComponentLink2Description: Datasheet; ComponentLink2URL: http://www.analog.com/static/imported-files/data_sheets/AD7441_7451.pdf; ComponentLink3Description: Package Specification; ComponentLink3URL: http://www.analog.com/static/imported-files/packages/PKG_PDF/SOT-23(RJ)/RJ_8.pdf; ComponentLink4Description: Product URL; ComponentLink4URL: http://www.analog.com/en/analog-to-digital-converters/ad-converters/ad7451/products/product.html
footprint RJ-8_N (SOP, 8-Leads, Body 2.9x1.6mm, Pitch 0.65mm, IPC Medium Density)
footprint RJ-8_L (SOP, 8-Leads, Body 2.9x1.6mm, Pitch 0.65mm, IPC High Density)
footprint RJ-8_M (SOP, 8-Leads, Body 2.9x1.6mm, Pitch 0.65mm, IPC Low Density)
pins: 1 VDD (power) "Power Supply Input. VDD is 2.7 V to 5.25 V. This supply is decoupled to GND with a 0.1 uF capacitor and a 10 uF tantalum capacitor.", 2 SCLK (in) "Serial Clock, Logic Input. SCLK provides the serial clock for accessing data from the part. This clock input is also used as the clock source for the conversion process.", 3 SDATA (hiz) "Serial Data, Logic Output. The conversion result from the AD7441/AD7451 is provided on this output as a serial data stream. The bits are clocked out on the falling edge of the SCLK input. The data stream of the AD7451 (See Datasheet)", 4 ~{CS} (in) "Chip Select. Active low logic input. This input provides the dual function of initiating a conversion on the AD7441/AD7451 and framing the serial data transfer.", 5 GND (power) "Analog Ground. Ground reference point for all circuitry on the AD7441/AD7451. All analog input signals and any external reference signal are referred to this GND voltage.", 6 VIN- (in) "Inverting Input. This pin sets the ground reference point for the VIN+ input. Connect to ground or to a dc offset to provide a pseudo ground.", 7 VIN+ (in) "Noninverting Analog Input.", 8 VREF (in) "Reference Input for the AD7441/AD7451. An external reference in the range of 100 mV to VDD must be applied to this input. The specified reference input is 2.5 V. This pin is decoupled to GND with a capacitor of at least 0.1 (See Datasheet)"

## AD7451BRMZ
designator U?
Single 12-Bit Analog-to-Digital Converter with Serial, SPI Interface, 1MSPS, -40 to +85 degC, RM-8, Pb-Free, Tube; Generic Part Number: AD7451; Manufacturer: Analog Devices; PartNumber: AD7451BRMZ; Resolution (Bits): 12; Channels: 1; Throughput Rate (SPS): 1M; Interface: Ser, SPI; DatasheetVersion: Rev.D; PackageVersion: Aug-2005; PackageReference: RM-8; PackageDescription: 8-Lead Mini Small Outline Package [MSOP]; Supplier 1: Digi-Key; Supplier Part Number 1: AD7451BRMZ-ND; Supplier 2: Newark; Supplier Part Number 2: 15P0806; Supplier 3: Mouser; Supplier Part Number 3: 584-AD7451BRMZ; RoHS: Y; Packing: Tube; Mounting Technology: Surface Mount; Code_JEDEC: MO-187-AA; ComponentLink1Description: Manufacturer URL; ComponentLink1URL: http://www.analog.com/en/index.html; ComponentLink2Description: Datasheet; ComponentLink2URL: http://www.analog.com/static/imported-files/data_sheets/AD7441_7451.pdf; ComponentLink3Description: Package Specification; ComponentLink3URL: http://www.analog.com/static/imported-files/packages/PKG_PDF/MSOP%28RM%29/RM_8.pdf; ComponentLink4Description: Product URL; ComponentLink4URL: http://www.analog.com/en/analog-to-digital-converters/ad-converters/ad7451/products/product.html
footprint RM-8_N (TSOP, 8-Leads, Body 3x3mm, Pitch 0.65mm, IPC Medium Density)
footprint RM-8_L (TSOP, 8-Leads, Body 3x3mm, Pitch 0.65mm, IPC High Density)
footprint RM-8_M (TSOP, 8-Leads, Body 3x3mm, Pitch 0.65mm, IPC Low Density)
pins: 1 VREF (in) "Reference Input for the AD7441/AD7451. An external reference in the range of 100 mV to VDD must be applied to this input. The specified reference input is 2.5 V. This pin is decoupled to GND with a capacitor of at least 0.1 (See Datasheet)", 2 VIN+ (in) "Noninverting Analog Input.", 3 VIN- (in) "Inverting Input. This pin sets the ground reference point for the VIN+ input. Connect to ground or to a dc offset to provide a pseudo ground.", 4 GND (power) "Analog Ground. Ground reference point for all circuitry on the AD7441/AD7451. All analog input signals and any external reference signal are referred to this GND voltage.", 5 ~{CS} (in) "Chip Select. Active low logic input. This input provides the dual function of initiating a conversion on the AD7441/AD7451 and framing the serial data transfer.", 6 SDATA (hiz) "Serial Data, Logic Output. The conversion result from the AD7441/AD7451 is provided on this output as a serial data stream. The bits are clocked out on the falling edge of the SCLK input. The data stream of the AD7451 (See Datasheet)", 7 SCLK (in) "Serial Clock, Logic Input. SCLK provides the serial clock for accessing data from the part. This clock input is also used as the clock source for the conversion process.", 8 VDD (power) "Power Supply Input. VDD is 2.7 V to 5.25 V. This supply is decoupled to GND with a 0.1 uF capacitor and a 10 uF tantalum capacitor."

## AD7452BRTZ-R2
designator U?
Single 12-Bit Analog-to-Digital Converter with Serial, SPI Interface, 555KSPS, -40 to +85 degC, RJ-8, Pb-Free, Reel; Generic Part Number: AD7452; Manufacturer: Analog Devices; PartNumber: AD7452BRTZ-R2; Resolution (Bits): 12; Channels: 1; Throughput Rate (SPS): 555K; Interface: Ser, SPI; DatasheetVersion: Rev.B; PackageVersion: 121608-A; PackageReference: RJ-8; PackageDescription: 8-Lead Thin Small Outline Transistor Package [SOT-23]; Supplier 1: Digi-Key; Supplier Part Number 1: AD7452BRTZ-R2TR-ND; Supplier 2: Digi-Key; Supplier Part Number 2: AD7452BRTZ-R2CT-ND; Supplier 3: Digi-Key; Supplier Part Number 3: AD7452BRTZ-R2DKR-ND; Supplier 4: Newark; Supplier Part Number 4: 12M8816; Supplier 5: Mouser; Supplier Part Number 5: 584-AD7452BRTZ-R2; RoHS: Y; Packing: Reel; Mounting Technology: Surface Mount; Code_JEDEC: MO-178-BA; ComponentLink1Description: Manufacturer URL; ComponentLink1URL: http://www.analog.com/en/index.html; ComponentLink2Description: Datasheet; ComponentLink2URL: http://www.analog.com/static/imported-files/data_sheets/AD7452.pdf; ComponentLink3Description: Package Specification; ComponentLink3URL: http://www.analog.com/static/imported-files/packages/PKG_PDF/SOT-23(RJ)/RJ_8.pdf; ComponentLink4Description: Product URL; ComponentLink4URL: http://www.analog.com/en/analog-to-digital-converters/ad-converters/ad7452/products/product.html
footprint RJ-8_N (SOP, 8-Leads, Body 2.9x1.6mm, Pitch 0.65mm, IPC Medium Density)
footprint RJ-8_L (SOP, 8-Leads, Body 2.9x1.6mm, Pitch 0.65mm, IPC High Density)
footprint RJ-8_M (SOP, 8-Leads, Body 2.9x1.6mm, Pitch 0.65mm, IPC Low Density)
pins: 1 VDD (power) "Power Supply Input. VDD is 3 V (+20%/-10%) or 5 V (+/- 5%). This supply should be decoupled to GND with a 0.1 uF capacitor and a 10 uF tantalum capacitor in parallel.", 2 SCLK (in) "Serial Clock. Logic input. SCLK provides the serial clock for accessing data from the part. This clock input is also used as the clock source for the conversion process.", 3 SDATA (hiz) "Serial Data. Logic output. The conversion result from the AD7452 is provided on this output as a serial data stream. The bits are clocked out on the falling edge of the SCLK input. The data stream consists of four leading (See Datasheet)", 4 ~{CS} (in) "Chip Select. Active low logic input. This input provides the dual function of initiating a conversion on the AD7452 and framing the serial data transfer.", 5 GND (power) "Analog Ground. Ground reference point for all circuitry on the AD7452. All analog input signals and any external reference signal should be referred to this GND voltage.", 6 VIN- (in) "Negative Terminal for Differential Analog Input.", 7 VIN+ (in) "Positive Terminal for Differential Analog Input.", 8 VREF (in) "Reference Input for the AD7452. An external reference must be applied to this input. For a 5 V power supply, the reference is 2.5 V (+/- 1%) for specified performance. For a 3 V power supply, the reference is 2 V (+/- 1%) (See Datasheet)"

## AD7452BRTZ-REEL7
designator U?
Single 12-Bit Analog-to-Digital Converter with Serial, SPI Interface, 555KSPS, -40 to +85 degC, RJ-8, Pb-Free, Reel; Generic Part Number: AD7452; Manufacturer: Analog Devices; PartNumber: AD7452BRTZ-REEL7; Resolution (Bits): 12; Channels: 1; Throughput Rate (SPS): 555K; Interface: Ser, SPI; DatasheetVersion: Rev.B; PackageVersion: 121608-A; PackageReference: RJ-8; PackageDescription: 8-Lead Thin Small Outline Transistor Package [SOT-23]; Supplier 1: Digi-Key; Supplier Part Number 1: AD7452BRTZ-REEL7TR-ND; Supplier 2: Digi-Key; Supplier Part Number 2: AD7452BRTZ-REEL7CT-ND; Supplier 3: Digi-Key; Supplier Part Number 3: AD7452BRTZ-REEL7DKR-ND; Supplier 4: Mouser; Supplier Part Number 4: 584-AD7452BRTZ-R7; RoHS: Y; Packing: Reel; Mounting Technology: Surface Mount; Code_JEDEC: MO-178-BA; ComponentLink1Description: Manufacturer URL; ComponentLink1URL: http://www.analog.com/en/index.html; ComponentLink2Description: Datasheet; ComponentLink2URL: http://www.analog.com/static/imported-files/data_sheets/AD7452.pdf; ComponentLink3Description: Package Specification; ComponentLink3URL: http://www.analog.com/static/imported-files/packages/PKG_PDF/SOT-23(RJ)/RJ_8.pdf; ComponentLink4Description: Product URL; ComponentLink4URL: http://www.analog.com/en/analog-to-digital-converters/ad-converters/ad7452/products/product.html
footprint RJ-8_N (SOP, 8-Leads, Body 2.9x1.6mm, Pitch 0.65mm, IPC Medium Density)
footprint RJ-8_L (SOP, 8-Leads, Body 2.9x1.6mm, Pitch 0.65mm, IPC High Density)
footprint RJ-8_M (SOP, 8-Leads, Body 2.9x1.6mm, Pitch 0.65mm, IPC Low Density)
pins: 1 VDD (power) "Power Supply Input. VDD is 3 V (+20%/-10%) or 5 V (+/- 5%). This supply should be decoupled to GND with a 0.1 uF capacitor and a 10 uF tantalum capacitor in parallel.", 2 SCLK (in) "Serial Clock. Logic input. SCLK provides the serial clock for accessing data from the part. This clock input is also used as the clock source for the conversion process.", 3 SDATA (hiz) "Serial Data. Logic output. The conversion result from the AD7452 is provided on this output as a serial data stream. The bits are clocked out on the falling edge of the SCLK input. The data stream consists of four leading (See Datasheet)", 4 ~{CS} (in) "Chip Select. Active low logic input. This input provides the dual function of initiating a conversion on the AD7452 and framing the serial data transfer.", 5 GND (power) "Analog Ground. Ground reference point for all circuitry on the AD7452. All analog input signals and any external reference signal should be referred to this GND voltage.", 6 VIN- (in) "Negative Terminal for Differential Analog Input.", 7 VIN+ (in) "Positive Terminal for Differential Analog Input.", 8 VREF (in) "Reference Input for the AD7452. An external reference must be applied to this input. For a 5 V power supply, the reference is 2.5 V (+/- 1%) for specified performance. For a 3 V power supply, the reference is 2 V (+/- 1%) (See Datasheet)"